# Altium schematic symbol library 1.07kR Buck.SchLib: 1 symbol
Pins are listed as number, name and electrical type; pins without a type are passive.

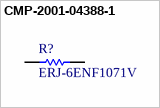
[diagram p0: symbol CMP-2001-04388-1]

## CMP-2001-04388-1
designator R?, comment ERJ-6ENF1071V
Manufacturer: Panasonic; Part Number: ERJ-6ENF1071V
footprint RESC2013X70X40NL20T20 (Chip Resistor, 2-Leads, Body 2.00x1.25mm, IPC Medium Density)
footprint RESC2013X70X40LL20T20 (Chip Resistor, 2-Leads, Body 2.00x1.25mm, IPC High Density)
footprint RESC2013X70X40ML20T20 (Chip Resistor, 2-Leads, Body 2.00x1.25mm, IPC Low Density)
pins: 1, 2
1 alternate drawing of the same symbol